# EAGLE library part ADS574U (library burr-brown)
Microprocessor-Compatible Sampling CMOS ADC
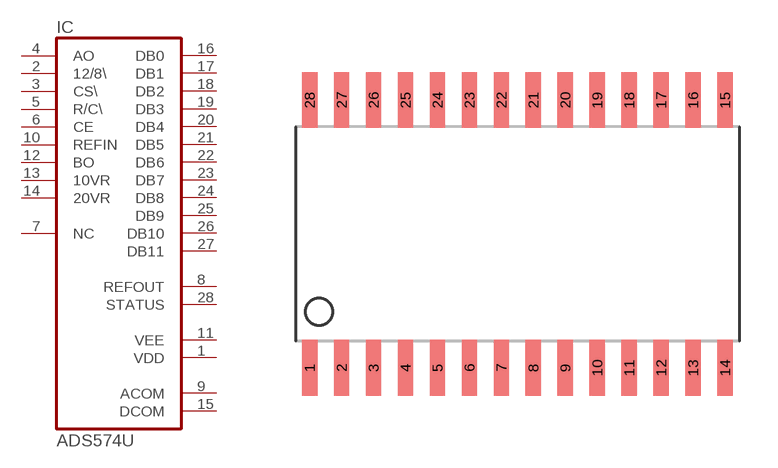
[diagram p216: symbol with the pads of SO28-3; footprint SO28-3]

Designator prefix IC

## ADS574U  [SO28-3]
1  VDD  pwr
2  12/8\  in
3  CS\  in
4  AO  in
5  R/C\  in
6  CE  in
7  NC  nc
8  REFOUT  out
9  ACOM  pwr
10  REFIN  in
11  VEE  pwr
12  BO  in
13  10VR  in
14  20VR  in
15  DCOM  pwr
16  DB0  out
17  DB1  out
18  DB2  out
19  DB3  out
20  DB4  out
21  DB5  out
22  DB6  out
23  DB7  out
24  DB8  out
25  DB9  out
26  DB10  out
27  DB11  out
28  STATUS  out

## Footprint SO28-3 (pad centres in mm)
smd 0.61 x 2.21: 1 -8.255,-5.315; 2 -6.985,-5.315; 3 -5.715,-5.315; 4 -4.445,-5.315; 5 -3.175,-5.315; 6 -1.905,-5.315; 7 -0.635,-5.315; 8 0.635,-5.315; 9 1.905,-5.315; 10 3.175,-5.315; 11 4.445,-5.315; 12 5.715,-5.315; 13 6.985,-5.315; 14 8.255,-5.315; 15 8.255,5.315; 16 6.985,5.315; 17 5.715,5.315; 18 4.445,5.315; 19 3.175,5.315; 20 1.905,5.315; 21 0.635,5.315; 22 -0.635,5.315; 23 -1.905,5.315; 24 -3.175,5.315; 25 -4.445,5.315; 26 -5.715,5.315; 27 -6.985,5.315; 28 -8.255,5.315